# Altium schematic symbol library HW_ADHERENT_NFC_R1_L1.SchLib: 515 symbols (part 5 of 8)
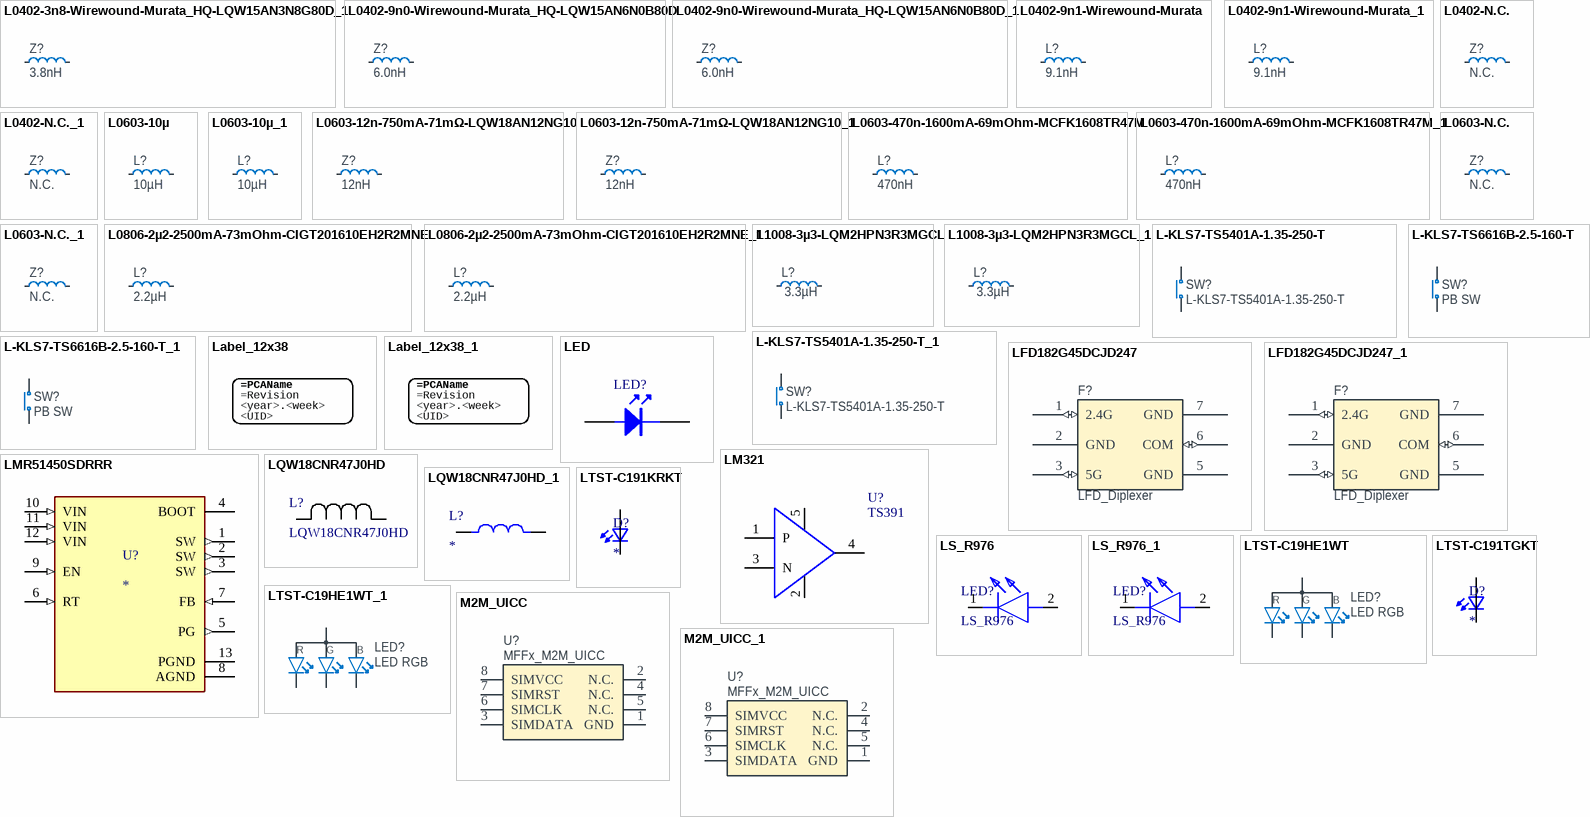
[diagram p19: symbols L0402-3n8-Wirewound-Murata_HQ-LQW15AN3N8G80D_1 to M2M_UICC_1]

## L0402-9n1-Wirewound-Murata
designator L?, comment 9.1nH
Inductor, 540mA, ±2%, 140mΩ, Q=25; Part Number: L0402-9n1-Wirewound-Murata; Manufacturer: Murata; Manufacturer Part Number: LQW15AN9N1G00; Part number IPS: 00000002497; Part number NEMS: 100300357; Note: -55°C ~ 125°C; Artikkelnr Noca: N.A.; Pad Count: 2; Component Status: Active; ComponentLink1URL: https://search.murata.co.jp/Ceramy/image/img/P02/JELF243A-0050.pdf; ComponentLink1Description: Datasheet; ComponentLink2URL: N.A.; ComponentLink2Description: Supplier link; HelpURL: https://psearch.en.murata.com/inductor/product/LQW15AN9N1G00%23.html; Footprint Doc: 0402; LatestRevisionDate: 2019-04-16; Published: 2019-04-16; Value: 9.1nH; Supplier 1: Digi-Key; Supplier Part Number 1: 490-6854-1-ND; Supplier 2: N.A.; Supplier Part Number 2: N.A.; PartId: 100300357; Component Class: Inductors; Author: rsk; Part number Norautron: N.A.
footprint INDC1005X04L_WW
pins: 1, 2

## L0402-9n1-Wirewound-Murata_1
designator L?, comment 9.1nH
Inductor, 540mA, ±2%, 140mΩ, Q=25; Part Number: L0402-9n1-Wirewound-Murata; Manufacturer: Murata; Manufacturer Part Number: LQW15AN9N1G00; Part number IPS: 00000002497; Part number NEMS: 100300357; Note: -55°C ~ 125°C; Artikkelnr Noca: N.A.; Pad Count: 2; Component Status: Active; ComponentLink1URL: https://search.murata.co.jp/Ceramy/image/img/P02/JELF243A-0050.pdf; ComponentLink1Description: Datasheet; ComponentLink2URL: N.A.; ComponentLink2Description: Supplier link; HelpURL: https://psearch.en.murata.com/inductor/product/LQW15AN9N1G00%23.html; Footprint Doc: 0402; LatestRevisionDate: 2019-04-16; Published: 2019-04-16; Value: 9.1nH; Supplier 1: Digi-Key; Supplier Part Number 1: 490-6854-1-ND; Supplier 2: N.A.; Supplier Part Number 2: N.A.; PartId: 100300357; Component Class: Inductors; Author: rsk; Part number Norautron: N.A.
footprint INDC1005X04L_WW
pins: 1, 2

## L0402-N.C.
designator Z?, comment N.C.
Not mounted; Part Number: L0402-N.C.; Manufacturer: N.A.; Part number NEMS: 100300037; Pad Count: 2; Assembly: Not mounted; Component Status: Active; Component Class: Inductors; Author: rsk; Manufacturer Part Number: N.A.; ComponentLink1URL: N.A.; ComponentLink1Description: Datasheet; ComponentLink2URL: N.A.; ComponentLink2Description: Supplier link; HelpURL: N.A.; Footprint Doc: 0402; LatestRevisionDate: 2016-11-24; Published: 2016-11-24; Value: N.C.; Note: N.A.; Supplier 1: N.A.; Supplier Part Number 1: N.A.; Supplier 2: N.A.; Supplier Part Number 2: N.A.; Artikkelnr Noca: N.A.; Part number IPS: N.A.; Part number Norautron: N.A.; PartId: 100300037
footprint INDC1005X04L_NC
footprint C1608X06L-C1005X04M (Chip Capacitor, 2-Leads, Body 1.6x0.8mm, IPC High Density)
pins: 1, 2

## L0402-N.C._1
designator Z?, comment N.C.
Not mounted; Part Number: L0402-N.C.; Manufacturer: N.A.; Part number NEMS: 100300037; Pad Count: 2; Assembly: Not mounted; Component Status: Active; Component Class: Inductors; Author: rsk; Manufacturer Part Number: N.A.; ComponentLink1URL: N.A.; ComponentLink1Description: Datasheet; ComponentLink2URL: N.A.; ComponentLink2Description: Supplier link; HelpURL: N.A.; Footprint Doc: 0402; LatestRevisionDate: 2016-11-24; Published: 2016-11-24; Value: N.C.; Note: N.A.; Supplier 1: N.A.; Supplier Part Number 1: N.A.; Supplier 2: N.A.; Supplier Part Number 2: N.A.; Artikkelnr Noca: N.A.; Part number IPS: N.A.; Part number Norautron: N.A.; PartId: 100300037
footprint INDC1005X04L_NC
footprint C1608X06L-C1005X04M (Chip Capacitor, 2-Leads, Body 1.6x0.8mm, IPC High Density)
pins: 1, 2

## L0603-10µ
designator L?, comment 10µH
Inductor, 80mA, ±10%; Part Number: L0603-10µ; Manufacturer: Taiyo Yuden; Manufacturer Part Number: LBMF1608T100K; Part number IPS: 00000007794; Part number Norautron: N.A.; Part number NEMS: 100300078; Pad Count: 2; Artikkelnr Noca: 33029314; Note: LBMF1608T100K 10µH 80mA 0603; Component Status: Active; Value: 10µH; Footprint Doc: 0603; Component Class: Inductors; Author: rsk; ComponentLink1Description: Datasheet; ComponentLink1URL: N.A.; ComponentLink2Description: Supplier link; ComponentLink2URL: N.A.; HelpURL: http://www.yuden.co.jp/ut/product/pdf/elb2_e.pdf; LatestRevisionDate: 2012-09-19; PartId: 100300078; Published: 2010-02-24; Supplier 1: Digi-Key; Supplier 2: Farnell; Supplier Part Number 1: 587-1714-1-ND; Supplier Part Number 2: 178-6105
footprint INDC1608X06L
pins: 1, 2

## L0603-10µ_1
designator L?, comment 10µH
Inductor, 80mA, ±10%; Part Number: L0603-10µ; Manufacturer: Taiyo Yuden; Manufacturer Part Number: LBMF1608T100K; Part number IPS: 00000007794; Part number Norautron: N.A.; Part number NEMS: 100300078; Pad Count: 2; Artikkelnr Noca: 33029314; Note: LBMF1608T100K 10µH 80mA 0603; Component Status: Active; Value: 10µH; Footprint Doc: 0603; Component Class: Inductors; Author: rsk; ComponentLink1Description: Datasheet; ComponentLink1URL: N.A.; ComponentLink2Description: Supplier link; ComponentLink2URL: N.A.; HelpURL: http://www.yuden.co.jp/ut/product/pdf/elb2_e.pdf; LatestRevisionDate: 2012-09-19; PartId: 100300078; Published: 2010-02-24; Supplier 1: Digi-Key; Supplier 2: Farnell; Supplier Part Number 1: 587-1714-1-ND; Supplier Part Number 2: 178-6105
footprint INDC1608X06L
pins: 1, 2

## L0603-12n-750mA-71mΩ-LQW18AN12NG10
designator Z?, comment 12nH
Inductor, 750mA, ±2%, 71mΩ, Q=38; Part Number: L0603-12n-750mA-71mΩ-LQW18AN12NG10; Manufacturer: Murata; Manufacturer Part Number: LQW18AN12NG10; Part number NEMS: 100300414; Pad Count: 2; Note: -55°C ~ 125°C; Artikkelnr Noca: N.A.; Component Status: Active; Component Class: Inductors; Author: rubr; ComponentLink1URL: https://search.murata.co.jp/Ceramy/image/img/P02/JELF243A-0026.pdf; ComponentLink1Description: Datasheet; ComponentLink2URL: N.A.; ComponentLink2Description: Supplier link; HelpURL: https://psearch.en.murata.com/inductor/product/LQW18AN12NG10%23.html; Footprint Doc: 0603; LatestRevisionDate: 2022-02-17; Published: 2022-02-17; Value: 12nH; Supplier 1: Digi-Key; Supplier Part Number 1: 490-6862-1-ND; Supplier 2: Mouser; Supplier Part Number 2: 81-LQW18AN12NG10D; Part number IPS: N.A.; Part number Norautron: N.A.; PartId: 100300414
footprint INDC1608X06L_WW
footprint C1608X06L-C1005X04M (Chip Capacitor, 2-Leads, Body 1.6x0.8mm, IPC High Density)
pins: 1, 2

## L0603-12n-750mA-71mΩ-LQW18AN12NG10_1
designator Z?, comment 12nH
Inductor, 750mA, ±2%, 71mΩ, Q=38; Part Number: L0603-12n-750mA-71mΩ-LQW18AN12NG10; Manufacturer: Murata; Manufacturer Part Number: LQW18AN12NG10; Part number NEMS: 100300414; Pad Count: 2; Note: -55°C ~ 125°C; Artikkelnr Noca: N.A.; Component Status: Active; Component Class: Inductors; Author: rubr; ComponentLink1URL: https://search.murata.co.jp/Ceramy/image/img/P02/JELF243A-0026.pdf; ComponentLink1Description: Datasheet; ComponentLink2URL: N.A.; ComponentLink2Description: Supplier link; HelpURL: https://psearch.en.murata.com/inductor/product/LQW18AN12NG10%23.html; Footprint Doc: 0603; LatestRevisionDate: 2022-02-17; Published: 2022-02-17; Value: 12nH; Supplier 1: Digi-Key; Supplier Part Number 1: 490-6862-1-ND; Supplier 2: Mouser; Supplier Part Number 2: 81-LQW18AN12NG10D; Part number IPS: N.A.; Part number Norautron: N.A.; PartId: 100300414
footprint INDC1608X06L_WW
footprint C1608X06L-C1005X04M (Chip Capacitor, 2-Leads, Body 1.6x0.8mm, IPC High Density)
pins: 1, 2

## L0603-470n-1600mA-69mOhm-MCFK1608TR47M
designator L?, comment 470nH
Inductor, Irms=1.6A, Isat=1.9A, ±20%, DCR=69mΩ; Part Number: L0603-470n-1600mA-69mOhm-MCFK1608TR47M; Manufacturer: Taiyo Yuden; Manufacturer Part Number: MCFK1608TR47M; Part number NEMS: 100300402; Pad Count: 2; Component Status: Active; Note: -40°C ~ 125°C; Artikkelnr Noca: N.A.; Component Class: Inductors; Author: getr; Footprint Doc: 0603; Value: 470nH; PartId: 100300402; ComponentLink1URL: https://ds.yuden.co.jp/TYCOMPAS/ut/detail?pn=MCFK1608TR47M%20&u=M; ComponentLink1Description: Datasheet; ComponentLink2URL: https://www.digikey.com/en/products/detail/taiyo-yuden/MCFK1608TR47M/7100391?s=N4IgTCBcDaILIGEBiBpAjANgAwA4AqASgCwDscIAugL5A; ComponentLink2Description: Supplier link; HelpURL: https://ds.yuden.co.jp/TYCOMPAS/ut/detail?pn=MCFK1608TR47M&u=M; LatestRevisionDate: 2022-09-07; Published: 2021-04-06; Supplier 1: Digi-Key; Supplier Part Number 1: 587-5625-1-ND; Supplier 2: N.A.; Supplier Part Number 2: N.A.; Part number IPS: N.A.; Part number Norautron: N.A.
footprint INDC1608X06L
pins: 1, 2

## L0603-470n-1600mA-69mOhm-MCFK1608TR47M_1
designator L?, comment 470nH
Inductor, Irms=1.6A, Isat=1.9A, ±20%, DCR=69mΩ; Part Number: L0603-470n-1600mA-69mOhm-MCFK1608TR47M; Manufacturer: Taiyo Yuden; Manufacturer Part Number: MCFK1608TR47M; Part number NEMS: 100300402; Pad Count: 2; Component Status: Active; Note: -40°C ~ 125°C; Artikkelnr Noca: N.A.; Component Class: Inductors; Author: getr; Footprint Doc: 0603; Value: 470nH; PartId: 100300402; ComponentLink1URL: https://ds.yuden.co.jp/TYCOMPAS/ut/detail?pn=MCFK1608TR47M%20&u=M; ComponentLink1Description: Datasheet; ComponentLink2URL: https://www.digikey.com/en/products/detail/taiyo-yuden/MCFK1608TR47M/7100391?s=N4IgTCBcDaILIGEBiBpAjANgAwA4AqASgCwDscIAugL5A; ComponentLink2Description: Supplier link; HelpURL: https://ds.yuden.co.jp/TYCOMPAS/ut/detail?pn=MCFK1608TR47M&u=M; LatestRevisionDate: 2022-09-07; Published: 2021-04-06; Supplier 1: Digi-Key; Supplier Part Number 1: 587-5625-1-ND; Supplier 2: N.A.; Supplier Part Number 2: N.A.; Part number IPS: N.A.; Part number Norautron: N.A.
footprint INDC1608X06L
pins: 1, 2

## L0603-N.C.
designator Z?, comment N.C.
Not mounted; Part Number: L0603-N.C.; Manufacturer: N.A.; Part number NEMS: 100300069; Pad Count: 2; Assembly: Not mounted; Component Status: Active; PartId: 100300069; Component Class: Inductors; Author: rsk; Manufacturer Part Number: N.A.; ComponentLink1URL: N.A.; ComponentLink1Description: Datasheet; ComponentLink2URL: N.A.; ComponentLink2Description: Supplier link; HelpURL: N.A.; Footprint Doc: 0603; LatestRevisionDate: 2016-11-24; Published: 2016-11-24; Value: N.C.; Note: N.A.; Supplier 1: N.A.; Supplier Part Number 1: N.A.; Supplier 2: N.A.; Supplier Part Number 2: N.A.; Artikkelnr Noca: N.A.; Part number IPS: N.A.; Part number Norautron: N.A.
footprint INDC1608X06L_NC
footprint C1608X06L-C1005X04M (Chip Capacitor, 2-Leads, Body 1.6x0.8mm, IPC High Density)
pins: 1, 2

## L0603-N.C._1
designator Z?, comment N.C.
Not mounted; Part Number: L0603-N.C.; Manufacturer: N.A.; Part number NEMS: 100300069; Pad Count: 2; Assembly: Not mounted; Component Status: Active; PartId: 100300069; Component Class: Inductors; Author: rsk; Manufacturer Part Number: N.A.; ComponentLink1URL: N.A.; ComponentLink1Description: Datasheet; ComponentLink2URL: N.A.; ComponentLink2Description: Supplier link; HelpURL: N.A.; Footprint Doc: 0603; LatestRevisionDate: 2016-11-24; Published: 2016-11-24; Value: N.C.; Note: N.A.; Supplier 1: N.A.; Supplier Part Number 1: N.A.; Supplier 2: N.A.; Supplier Part Number 2: N.A.; Artikkelnr Noca: N.A.; Part number IPS: N.A.; Part number Norautron: N.A.
footprint INDC1608X06L_NC
footprint C1608X06L-C1005X04M (Chip Capacitor, 2-Leads, Body 1.6x0.8mm, IPC High Density)
pins: 1, 2

## L0806-2µ2-2500mA-73mOhm-CIGT201610EH2R2MNE
designator L?, comment 2.2µH
Inductor, Irms=2.5A, Isat=2.9A, ±20%, DCR=73mΩ; Part Number: L0806-2µ2-2500mA-73mOhm-CIGT201610EH2R2MNE; Manufacturer: Samsung Electro-Mechanics America; Manufacturer Part Number: CIGT201610EH2R2MNE; Part number Norautron: 26521789; Part number NEMS: 100300400; Pad Count: 2; Component Status: Active; Note: Unshielded Thin Film Inductor; Artikkelnr Noca: N.A.; Component Class: Inductors; Author: rsk; Footprint Doc: 0806; Value: 2.2µH; PartId: 100300400; ComponentLink1URL: https://media.digikey.com/pdf/Data%20Sheets/Samsung%20PDFs/CIGT201610EH2R2MNE_Spec.pdf; ComponentLink1Description: Datasheet; ComponentLink2URL: https://www.digikey.com/en/products/detail/samsung-electro-mechanics/CIGT201610EH2R2MNE/7041223?s=N4IgTCBcDaIMIEkDiAVMAGAjANk%2BgogBJgBKYAsgHL4gC6AvkA; ComponentLink2Description: Supplier link; HelpURL: http://product.samsungsem.com/pi/CIGT201610EH2R2MN.do; LatestRevisionDate: 2022-09-07; Published: 2021-02-03; Supplier 1: Digi-Key; Supplier Part Number 1: 1276-6901-1-ND; Supplier 2: Mouser; Supplier Part Number 2: 187-CIGT201610EH2R2M; Part number IPS: N.A.
footprint INDC2016X10N
pins: 1, 2

## L0806-2µ2-2500mA-73mOhm-CIGT201610EH2R2MNE_1
designator L?, comment 2.2µH
Inductor, Irms=2.5A, Isat=2.9A, ±20%, DCR=73mΩ; Part Number: L0806-2µ2-2500mA-73mOhm-CIGT201610EH2R2MNE; Manufacturer: Samsung Electro-Mechanics America; Manufacturer Part Number: CIGT201610EH2R2MNE; Part number Norautron: 26521789; Part number NEMS: 100300400; Pad Count: 2; Component Status: Active; Note: Unshielded Thin Film Inductor; Artikkelnr Noca: N.A.; Component Class: Inductors; Author: rsk; Footprint Doc: 0806; Value: 2.2µH; PartId: 100300400; ComponentLink1URL: https://media.digikey.com/pdf/Data%20Sheets/Samsung%20PDFs/CIGT201610EH2R2MNE_Spec.pdf; ComponentLink1Description: Datasheet; ComponentLink2URL: https://www.digikey.com/en/products/detail/samsung-electro-mechanics/CIGT201610EH2R2MNE/7041223?s=N4IgTCBcDaIMIEkDiAVMAGAjANk%2BgogBJgBKYAsgHL4gC6AvkA; ComponentLink2Description: Supplier link; HelpURL: http://product.samsungsem.com/pi/CIGT201610EH2R2MN.do; LatestRevisionDate: 2022-09-07; Published: 2021-02-03; Supplier 1: Digi-Key; Supplier Part Number 1: 1276-6901-1-ND; Supplier 2: Mouser; Supplier Part Number 2: 187-CIGT201610EH2R2M; Part number IPS: N.A.
footprint INDC2016X10N
pins: 1, 2

## L1008-3µ3-LQM2HPN3R3MGCL
designator L?, comment 3.3µH
Inductor, 1A, ±20%, 200mOhm; Part Number: L1008-3µ3-LQM2HPN3R3MGCL; Manufacturer: Murata; Manufacturer Part Number: LQM2HPN3R3MGCL; Part number NEMS: 100300406; Pad Count: 2; Note: -55°C ~ 125°C; Artikkelnr Noca: N.A.; Component Status: Active; Component Class: Inductors; Author: prbu; ComponentLink1URL: https://www.murata.com/en-sg/products/productdetail?partno=LQM2HPN3R3MGC%23; ComponentLink1Description: Datasheet; ComponentLink2URL: https://www.digikey.com/en/products/detail/murata-electronics/LQM2HPN3R3MGCL/4359129?s=N4IgTCBcDaIDIEUCyYASAFAcgZgEraQHEBhOEAXQF8g; ComponentLink2Description: Supplier link; HelpURL: https://www.murata.com/en-sg/products/productdetail?partno=LQM2HPN3R3MGC%23; Footprint Doc: 1008; LatestRevisionDate: 2022-01-20; Published: 2022-01-20; Value: 3.3µH; Supplier 1: Digi-Key; Supplier Part Number 1: 490-12070-1-ND; Supplier 2: N.A.; Supplier Part Number 2: N.A.; Part number IPS: N.A.; Part number Norautron: N.A.; PartId: 100300406
footprint INDC2520X10N
pins: 1, 2

## L1008-3µ3-LQM2HPN3R3MGCL_1
designator L?, comment 3.3µH
Inductor, 1A, ±20%, 200mOhm; Part Number: L1008-3µ3-LQM2HPN3R3MGCL; Manufacturer: Murata; Manufacturer Part Number: LQM2HPN3R3MGCL; Part number NEMS: 100300406; Pad Count: 2; Note: -55°C ~ 125°C; Artikkelnr Noca: N.A.; Component Status: Active; Component Class: Inductors; Author: prbu; ComponentLink1URL: https://www.murata.com/en-sg/products/productdetail?partno=LQM2HPN3R3MGC%23; ComponentLink1Description: Datasheet; ComponentLink2URL: https://www.digikey.com/en/products/detail/murata-electronics/LQM2HPN3R3MGCL/4359129?s=N4IgTCBcDaIDIEUCyYASAFAcgZgEraQHEBhOEAXQF8g; ComponentLink2Description: Supplier link; HelpURL: https://www.murata.com/en-sg/products/productdetail?partno=LQM2HPN3R3MGC%23; Footprint Doc: 1008; LatestRevisionDate: 2022-01-20; Published: 2022-01-20; Value: 3.3µH; Supplier 1: Digi-Key; Supplier Part Number 1: 490-12070-1-ND; Supplier 2: N.A.; Supplier Part Number 2: N.A.; Part number IPS: N.A.; Part number Norautron: N.A.; PartId: 100300406
footprint INDC2520X10N
pins: 1, 2

## L-KLS7-TS5401A-1.35-250-T
designator SW?
Microminiature SMT Switch, Side Actuated; Manufacturer: Cabcon; Part number NEMS: 101500149; Pad Count: 4; Note: Tactile Switch, SPST, SMD, 220gf; Artikkelnr Noca: N.A.; Component Status: Active; Part Number: L-KLS7-TS5401A-1.35-250-T; Component Class: Switches; Author: getr; Manufacturer Part Number: L-KLS7-TS5401A-1.35-250-T; ComponentLink1URL: N.A.; ComponentLink1Description: Datasheet; ComponentLink2URL: N.A.; ComponentLink2Description: Supplier link; HelpURL: N.A.; Footprint Doc: L-KLS7-TS5401A-1.35-250-T; LatestRevisionDate: 2024-08-08; Published: 2024-08-08; Value: L-KLS7-TS5401A-1.35-250-T; Supplier 1: Cabcon; Supplier Part Number 1: L-KLS7-TS5401A-1.35-250-T; Supplier 2: N.A.; Supplier Part Number 2: N.A.; Part number IPS: N.A.; Part number Norautron: N.A.; PartId: 101500149
footprint L-KLS7-TS5401A-1.35-250-T
pins: 1 N.O, 2 COM

## L-KLS7-TS5401A-1.35-250-T_1
designator SW?, comment L-KLS7-TS5401A-1.35-250-T
Microminiature SMT Switch, Side Actuated; Manufacturer: Cabcon; Part number NEMS: 101500149; Pad Count: 4; Note: Tactile Switch, SPST, SMD, 220gf; Artikkelnr Noca: N.A.; Component Status: Active; Part Number: L-KLS7-TS5401A-1.35-250-T; Component Class: Switches; Author: getr; Manufacturer Part Number: L-KLS7-TS5401A-1.35-250-T; ComponentLink1URL: N.A.; ComponentLink1Description: Datasheet; ComponentLink2URL: N.A.; ComponentLink2Description: Supplier link; HelpURL: N.A.; Footprint Doc: L-KLS7-TS5401A-1.35-250-T; LatestRevisionDate: 2024-08-08; Published: 2024-08-08; Value: L-KLS7-TS5401A-1.35-250-T; Supplier 1: Cabcon; Supplier Part Number 1: L-KLS7-TS5401A-1.35-250-T; Supplier 2: N.A.; Supplier Part Number 2: N.A.; Part number IPS: N.A.; Part number Norautron: N.A.; PartId: 101500149
footprint L-KLS7-TS5401A-1.35-250-T
pins: 1 N.O, 2 COM

## L-KLS7-TS6616B-2.5-160-T
designator SW?, comment PB SW
Tactile Switch, SPNO, SMD, 160gf, 6.2x6.4x2.5mm; Part Number: L-KLS7-TS6616B-2.5-160-T; Manufacturer: KLS; Part number NEMS: 101500133, 101500001; Note: N.A.; Pad Count: 4; Component Status: Active; Manufacturer Part Number: L-KLS7-TS6616B-2.5-160-T; Footprint Doc: L-KLS7-TS6616B-2.5-160-T; LatestRevisionDate: 2021-07-02; Published: 2021-07-02; Value: PB SW; Artikkelnr Noca: N.A.; Part number IPS: N.A.; ComponentLink1URL: N.A.; ComponentLink1Description: Datasheet; ComponentLink2URL: N.A.; ComponentLink2Description: Supplier link; HelpURL: \\hizz\pro\app9717\Datasheet\switches\KLS\L-KLS7-TS6616B-2.5-160-T.pdf; Supplier 1: Cabcon; Supplier Part Number 1: L-KLS7-TS6616B-2.5-160-T; Supplier 2: N.A.; Supplier Part Number 2: N.A.; Author: masi; Component Class: Switches; PartId: 101500133; Part number Norautron: N.A.
footprint L-KLS7-TS6616B-2.5-160-T
pins: 1 N.O, 2 COM

## L-KLS7-TS6616B-2.5-160-T_1
designator SW?, comment PB SW
Tactile Switch, SPNO, SMD, 160gf, 6.2x6.4x2.5mm; Part Number: L-KLS7-TS6616B-2.5-160-T; Manufacturer: KLS; Part number NEMS: 101500133, 101500001; Note: N.A.; Pad Count: 4; Component Status: Active; Manufacturer Part Number: L-KLS7-TS6616B-2.5-160-T; Footprint Doc: L-KLS7-TS6616B-2.5-160-T; LatestRevisionDate: 2021-07-02; Published: 2021-07-02; Value: PB SW; Artikkelnr Noca: N.A.; Part number IPS: N.A.; ComponentLink1URL: N.A.; ComponentLink1Description: Datasheet; ComponentLink2URL: N.A.; ComponentLink2Description: Supplier link; HelpURL: \\hizz\pro\app9717\Datasheet\switches\KLS\L-KLS7-TS6616B-2.5-160-T.pdf; Supplier 1: Cabcon; Supplier Part Number 1: L-KLS7-TS6616B-2.5-160-T; Supplier 2: N.A.; Supplier Part Number 2: N.A.; Author: masi; Component Class: Switches; PartId: 101500133; Part number Norautron: N.A.
footprint L-KLS7-TS6616B-2.5-160-T
pins: 1 N.O, 2 COM

## Label_12x38
designator LABEL?, comment 12x38mm  (value not drawn)
PCA version label, stick-on, 12x38mm; Part Number: Label_12x38; Manufacturer: Ellco Etikett; Manufacturer Part Number: 83019; Part number NEMS: 101200031; Component Status: Active; Pad Count: 0; Note: N.A.; Component Class: Mechanicals; Author: getr; ComponentLink1URL: N.A.; ComponentLink1Description: Datasheet; ComponentLink2URL: N.A.; ComponentLink2Description: Supplier link; HelpURL: N.A.; LatestRevisionDate: 2023-08-02; Published: 2023-08-02; Footprint Doc: Label; Value: 12x38mm; Supplier 1: N.A.; Supplier Part Number 1: N.A.; Supplier 2: N.A.; Supplier Part Number 2: N.A.; Artikkelnr Noca: N.A.; Part number IPS: N.A.; Part number Norautron: N.A.; PartId: 101200031
footprint LabelSilk_12x38
text: <year>.<week>; <UID>

## Label_12x38_1
designator LABEL?, comment 12x38mm  (value not drawn)
PCA version label, stick-on, 12x38mm; Part Number: Label_12x38; Manufacturer: Ellco Etikett; Manufacturer Part Number: 83019; Part number NEMS: 101200031; Component Status: Active; Pad Count: 0; Note: N.A.; Component Class: Mechanicals; Author: getr; ComponentLink1URL: N.A.; ComponentLink1Description: Datasheet; ComponentLink2URL: N.A.; ComponentLink2Description: Supplier link; HelpURL: N.A.; LatestRevisionDate: 2023-08-02; Published: 2023-08-02; Footprint Doc: Label; Value: 12x38mm; Supplier 1: N.A.; Supplier Part Number 1: N.A.; Supplier 2: N.A.; Supplier Part Number 2: N.A.; Artikkelnr Noca: N.A.; Part number IPS: N.A.; Part number Norautron: N.A.; PartId: 101200031
footprint LabelSilk_12x38
text: <year>.<week>; <UID>

## LED
designator LED?
footprint LUMEXLED
pins: A 1, K 2

## LFD182G45DCJD247
designator F?, comment LFD_Diplexer
Signal Conditioning 2.4GHz and 5GHz Diplexer; Part Number: LFD182G45DCJD247; Manufacturer: Murata; Part number NEMS: 100800026; Pad Count: 6; Value: LFD182G45DCJD247; Note: N.A.; Component Status: Active; Component Class: Filters; Author: hany; Manufacturer Part Number: LFD182G45DCJD247; ComponentLink1URL: https://no.mouser.com/datasheet/2/281/1/LFD182G45DCJD247-2399435.pdf; ComponentLink1Description: Datasheet; ComponentLink2URL: N.A.; ComponentLink2Description: Supplier link; HelpURL: N.A.; Footprint Doc: CAF; LatestRevisionDate: 2021-10-06; Published: 2021-10-06; Supplier 1: Mouser; Supplier Part Number 1: 81-LFD182G45DCJD247; Supplier 2: N.A.; Supplier Part Number 2: N.A.; Artikkelnr Noca: N.A.; Part number IPS: N.A.; Part number Norautron: N.A.; PartId: 100800026
footprint CAF-50P160X80-6N
pins: 1 2.4G (io), 2 GND (power), 3 5G (io), 5 GND (power), 6 COM (io), 7 GND (power)

## LFD182G45DCJD247_1
designator F?, comment LFD_Diplexer
Signal Conditioning 2.4GHz and 5GHz Diplexer; Part Number: LFD182G45DCJD247; Manufacturer: Murata; Part number NEMS: 100800026; Pad Count: 6; Value: LFD182G45DCJD247; Note: N.A.; Component Status: Active; Component Class: Filters; Author: hany; Manufacturer Part Number: LFD182G45DCJD247; ComponentLink1URL: https://no.mouser.com/datasheet/2/281/1/LFD182G45DCJD247-2399435.pdf; ComponentLink1Description: Datasheet; ComponentLink2URL: N.A.; ComponentLink2Description: Supplier link; HelpURL: N.A.; Footprint Doc: CAF; LatestRevisionDate: 2021-10-06; Published: 2021-10-06; Supplier 1: Mouser; Supplier Part Number 1: 81-LFD182G45DCJD247; Supplier 2: N.A.; Supplier Part Number 2: N.A.; Artikkelnr Noca: N.A.; Part number IPS: N.A.; Part number Norautron: N.A.; PartId: 100800026
footprint CAF-50P160X80-6N
pins: 1 2.4G (io), 2 GND (power), 3 5G (io), 5 GND (power), 6 COM (io), 7 GND (power)

## LM321
designator U?, comment TS391
footprint SOT-25
pins: 1 P, 2 GND, 3 N, 4 OUT, 5 VDD

## LMR51450SDRRR
designator U?
36-V,Â 5-A synchronous buck converter; MF: Texas Instruments; MP: LMR51450SDRRR; SnapEDA_Link: https://www.snapeda.com/parts/LMR51450SDRRR/Texas+Instruments/view-part/?ref=snap; Package: WSON-12 Texas Instruments; Value: *; Check_prices: https://www.snapeda.com/parts/LMR51450SDRRR/Texas+Instruments/view-part/?ref=eda
footprint CONV_LMR51450SDRRR
pins: 1 SW (out), 2 SW (out), 3 SW (out), 4 BOOT, 5 PG (out), 6 RT (in), 7 FB (in), 8 AGND (power), 9 EN (in), 10 VIN (in), 11 VIN (in), 12 VIN (in), 13 PGND (power)

## LQW18CNR47J0HD
designator L?
Description; Manufacturer_Name: Murata; Copyright: Copyright (C) 2025 Ultra Librarian. All rights reserved.; Manufacturer_Part_Number: LQW18CNR47J0HD
footprint IND_LQW18CN_0H_MUR
pins: 1, 2

## LQW18CNR47J0HD_1
designator L?
470 nH Unshielded Wirewound Inductor 500 mA 450mOhm Max 0603 (1608 Metric); Manufacturer: Murata Electronics; Supplier: Digi; 490-LQW18CNR47J0HDDKR-ND
footprint IND_LQW18CNR47J0HD
pins: 1, 2

## LS_R976
designator LED?
Red 633nm LED Indication - Discrete 2V 0805 (2012 Metric); Manufacturer_Name: ams OSRAM; Manufacturer_Part_Number: LS R976; Datasheet Link: http://uk.rs-online.com/web/p/products/4974804; Height: 0.4mm; Mouser Part Number: 720-LSR976D5178; Mouser Price/Stock: https://www.mouser.co.uk/ProductDetail/OSRAM-Opto-Semiconductors/LS-R976?qs=OIr7YF%252B2cWVTfzKl425Fkw%3D%3D; Arrow Part Number: LS R976; Arrow Price/Stock: https://www.arrow.com/en/products/lsr976/osram-opto-semiconductors?region=europe
footprint LEDC2012X40N
pins: 1 K, 2 A

## LS_R976_1
designator LED?, comment LS_R976
Red 633nm LED Indication - Discrete 2V 0805 (2012 Metric); Manufacturer_Name: ams OSRAM; Manufacturer_Part_Number: LS R976; Datasheet Link: http://uk.rs-online.com/web/p/products/4974804; Height: 0.4mm; Mouser Part Number: 720-LSR976D5178; Mouser Price/Stock: https://www.mouser.co.uk/ProductDetail/OSRAM-Opto-Semiconductors/LS-R976?qs=OIr7YF%252B2cWVTfzKl425Fkw%3D%3D; Arrow Part Number: LS R976; Arrow Price/Stock: https://www.arrow.com/en/products/lsr976/osram-opto-semiconductors?region=europe
footprint LEDC2012X40N
pins: 1 K, 2 A

## LTST-C19HE1WT
designator LED?, comment LED RGB
RGB LED 1.60 mm x 1.60 mm SMD; Part Number: LTST-C19HE1WT; Manufacturer: LITEON; Part number IPS: 00000007798; Part number NEMS: 101400093; Note: N.A.; Pad Count: 4; Component Status: Active; Manufacturer Part Number: LTST-C19HE1WT; LatestRevisionDate: 2016-09-23; Published: 2016-09-23; Value: LED RGB; Artikkelnr Noca: N.A.; Footprint Doc: LED_RGB_0606; ComponentLink1URL: N.A.; ComponentLink1Description: Datasheet; ComponentLink2URL: N.A.; ComponentLink2Description: Supplier link; HelpURL: http://optoelectronics.liteon.com/upload/download/DS22-2008-0044/S_110_LTST-C19HE1WT.pdf; Supplier 1: Digi-Key; Supplier Part Number 1: 160-2162-1-ND; Supplier 2: Mouser; Supplier Part Number 2: 859-LTST-C19HE1WT; Author: rsk; Component Class: Optoelectronics; PartId: 101400093; Part number Norautron: N.A.
footprint LED_RGB_0606
pins: 1 C_RED, 2 C_GREEN, 3 C_BLUE, 4 A
text: R; G; B

## LTST-C19HE1WT_1
designator LED?, comment LED RGB
RGB LED 1.60 mm x 1.60 mm SMD; Part Number: LTST-C19HE1WT; Manufacturer: LITEON; Part number IPS: 00000007798; Part number NEMS: 101400093; Note: N.A.; Pad Count: 4; Component Status: Active; Manufacturer Part Number: LTST-C19HE1WT; LatestRevisionDate: 2016-09-23; Published: 2016-09-23; Value: LED RGB; Artikkelnr Noca: N.A.; Footprint Doc: LED_RGB_0606; ComponentLink1URL: N.A.; ComponentLink1Description: Datasheet; ComponentLink2URL: N.A.; ComponentLink2Description: Supplier link; HelpURL: http://optoelectronics.liteon.com/upload/download/DS22-2008-0044/S_110_LTST-C19HE1WT.pdf; Supplier 1: Digi-Key; Supplier Part Number 1: 160-2162-1-ND; Supplier 2: Mouser; Supplier Part Number 2: 859-LTST-C19HE1WT; Author: rsk; Component Class: Optoelectronics; PartId: 101400093; Part number Norautron: N.A.
footprint LED_RGB_0606
pins: 1 C_RED, 2 C_GREEN, 3 C_BLUE, 4 A
text: R; G; B

## LTST-C191KRKT
designator D?
http://octopart.com/ltst-c190krkt-lite-on-549893; MP: LTST-C191KRKT; Package: None; Value: *; Availability: Unavailable; Price: None
footprint 0603
pins: 1 K2, 2 A2

## LTST-C191TGKT
designator D?
Green 525nm LED Indication - Discrete 3.2V 0603 (1608 Metric); MP: LTST-C191TGKT; MF: Lite-On Inc.; SnapEDA_Link: https://www.snapeda.com/parts/LTST-C191TGKT/Lite-On%20Inc./view-part/696744/?ref=snap; Purchase-URL: https://pricing.snapeda.com/search/part/LTST-C191TGKT/?ref=eda; Value: *; Digi-Key_Part_Number: 160-1888-1-ND; Check_prices: https://www.snapeda.com/parts/LTST-C191TGKT/Lite-On%20Inc./view-part/696744/?ref=eda; Package: 0603 Lite-On
footprint 0603
pins: 1 K2, 2 A2

## M2M_UICC
designator U?, comment MFFx_M2M_UICC
M2M UICC SIM Card; Manufacturer: N.A.; Part number NEMS: 101900595; Pad Count: 8; Component Status: Active; Part Number: M2M_UICC; Manufacturer Part Number: N.A.; ComponentLink1URL: N.A.; ComponentLink1Description: Datasheet; ComponentLink2URL: N.A.; ComponentLink2Description: Supplier link; HelpURL: N.A.; Footprint Doc: SON-8; LatestRevisionDate: 2019-10-22; Published: 2019-10-22; Value: M2M UICC; Note: N.A.; Supplier 1: N.A.; Supplier Part Number 1: N.A.; Supplier 2: N.A.; Supplier Part Number 2: N.A.; Artikkelnr Noca: N.A.; Part number IPS: N.A.; Author: rsk; Component Class: Misc_ICs; PartId: 101900595; Part number Norautron: N.A.
footprint SON127P600X90_HS-8N
pins: 1 GND, 2 N.C., 3 SIMDATA, 4 N.C., 5 N.C., 6 SIMCLK, 7 SIMRST, 8 SIMVCC

## M2M_UICC_1
designator U?, comment MFFx_M2M_UICC
M2M UICC SIM Card; Manufacturer: N.A.; Part number NEMS: 101900595; Pad Count: 8; Component Status: Active; Part Number: M2M_UICC; Manufacturer Part Number: N.A.; ComponentLink1URL: N.A.; ComponentLink1Description: Datasheet; ComponentLink2URL: N.A.; ComponentLink2Description: Supplier link; HelpURL: N.A.; Footprint Doc: SON-8; LatestRevisionDate: 2019-10-22; Published: 2019-10-22; Value: M2M UICC; Note: N.A.; Supplier 1: N.A.; Supplier Part Number 1: N.A.; Supplier 2: N.A.; Supplier Part Number 2: N.A.; Artikkelnr Noca: N.A.; Part number IPS: N.A.; Author: rsk; Component Class: Misc_ICs; PartId: 101900595; Part number Norautron: N.A.
footprint SON127P600X90_HS-8N
pins: 1 GND, 2 N.C., 3 SIMDATA, 4 N.C., 5 N.C., 6 SIMCLK, 7 SIMRST, 8 SIMVCC

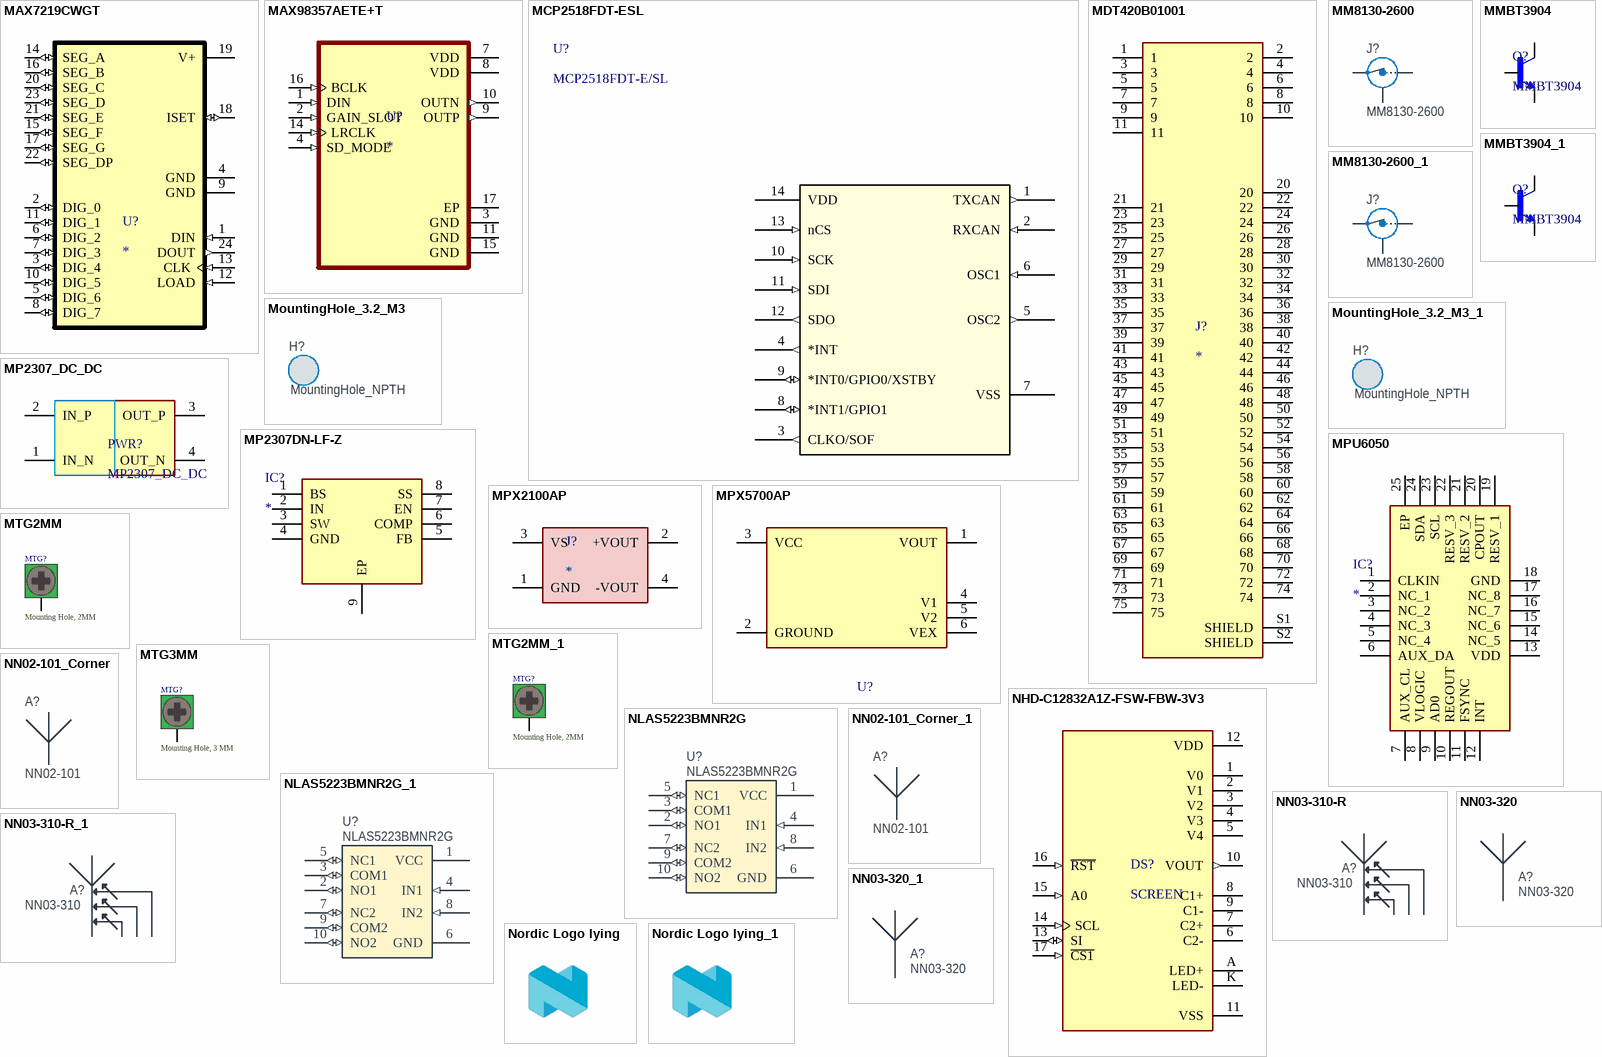
[diagram p8: symbols MAX7219CWGT to Nordic Logo lying_1]

## MAX7219CWGT
designator U?
IC DRVR 7 SEGMNT 8 DIGIT 24SOIC; MF: Maxim Integrated; MP: MAX7219CWG-T; Package: SOIC-24 Maxim Integrated; Value: *; Price: None; Availability: Unavailable; SnapEDA_Link: https://www.snapeda.com/parts/MAX7219CWG-T/Maxim%20Integrated/view-part/1041821/?ref=snap
footprint SOIC127P1032X265-24N
pins: 1 DIN (in), 2 DIG_0 (io), 3 DIG_4 (io), 4 GND (power), 5 DIG_6 (io), 6 DIG_2 (io), 7 DIG_3 (io), 8 DIG_7 (io), 9 GND (power), 10 DIG_5 (io), 11 DIG_1 (io), 12 LOAD (in), 13 CLK (in), 14 SEG_A (io), 15 SEG_F (io), 16 SEG_B (io), 17 SEG_G (io), 18 ISET (io), 19 V+ (power), 20 SEG_C (io), 21 SEG_E (io), 22 SEG_DP (io), 23 SEG_D (io), 24 DOUT (out)

## MAX98357AETE+T
designator U?
Tiny, Low-Cost, PCM Class D Amplifier with Class AB Performance; MF: Analog Devices; MP: MAX98357AETE+T; SnapEDA_Link: https://www.snapeda.com/parts/MAX98357AETE+T/Analog+Devices/view-part/?ref=snap; Package: TQFN-16 Maxim; Value: *; Check_prices: https://www.snapeda.com/parts/MAX98357AETE+T/Analog+Devices/view-part/?ref=eda
footprint QFN50P300X300X80-17N
pins: 1 DIN (in), 2 GAIN_SLOT (in), 3 GND (power), 4 SD_MODE (in), 7 VDD (power), 8 VDD (power), 9 OUTP (out), 10 OUTN (out), 11 GND (power), 14 LRCLK (in), 15 GND (power), 16 BCLK (in), 17 EP (power)

## MCP2518FDT-ESL
designator U?, comment MCP2518FDT-E/SL
Description; Manufacturer_Name: Microchip; Copyright: Copyright (C) 2025 Ultra Librarian. All rights reserved.; Manufacturer_Part_Number: MCP2518FDT-E/SL; RefDes: RefDes; Type: Type
footprint SOIC14_SL_MCH
pins: 1 TXCAN (out), 2 RXCAN (in), 3 CLKO/SOF (out), 4 *INT (out), 5 OSC2 (out), 6 OSC1 (in), 7 VSS (power), 8 *INT1/GPIO1 (io), 9 *INT0/GPIO0/XSTBY (io), 10 SCK (in), 11 SDI (in), 12 SDO (out), 13 nCS (in), 14 VDD (power)

## MDT420B01001
designator J?
MF: Amphenol Commercial; MP: MDT420B01001; Package: None; Price: None; Value: *; Availability: Unavailable
footprint AMPHENOL_MDT420B01001
pins: 1, 2, 3, 4, 5, 6, 7, 8, 9, 10, 11, 20, 21, 22, 23, 24, 25, 26, 27, 28, 29, 30, 31, 32, 33, 34, 35, 36, 37, 38, 39, 40, 41, 42, 43, 44, 45, 46, 47, 48, 49, 50, 51, 52, 53, 54, 55, 56, 57, 58, 59, 60, 61, 62, 63, 64, 65, 66, 67, 68, 69, 70, 71, 72, 73, 74, 75, S1 SHIELD, S2 SHIELD

## MM8130-2600
designator J?
Coaxial Connector with Switch; Manufacturer: Murata; Part number IPS: 00000009955; Part number Norautron: 26030338; Part number NEMS: 100500400; Note: N.A.; Artikkelnr Noca: 55029011; Pad Count: 3; Component Status: Active; Part Number: MM8130-2600; Manufacturer Part Number: MM8130-2600; LatestRevisionDate: 2014-04-24; Published: 2014-04-24; Value: MM8130-2600; Footprint Doc: COAXIAL-SWF; ComponentLink1URL: N.A.; ComponentLink1Description: Datasheet; ComponentLink2URL: N.A.; ComponentLink2Description: Supplier link; HelpURL: http://www.murata.com/products/catalog/pdf/o33e.pdf; Supplier 1: Digi-Key; Supplier Part Number 1: 490-4981-1-ND; Supplier 2: Mouser; Supplier Part Number 2: 81-MM8130-2600RA2; Component Class: Connectors; PartId: 100500400; Author: rsk; System: Connector
footprint COAXIAL-SWF
pins: 1 IN, 2 Shield, 3 OUT

## MM8130-2600_1
designator J?, comment MM8130-2600
Coaxial Connector with Switch; Manufacturer: Murata; Part number IPS: 00000009955; Part number Norautron: 26030338; Part number NEMS: 100500400; Note: N.A.; Artikkelnr Noca: 55029011; Pad Count: 3; Component Status: Active; Part Number: MM8130-2600; Manufacturer Part Number: MM8130-2600; LatestRevisionDate: 2014-04-24; Published: 2014-04-24; Value: MM8130-2600; Footprint Doc: COAXIAL-SWF; ComponentLink1URL: N.A.; ComponentLink1Description: Datasheet; ComponentLink2URL: N.A.; ComponentLink2Description: Supplier link; HelpURL: http://www.murata.com/products/catalog/pdf/o33e.pdf; Supplier 1: Digi-Key; Supplier Part Number 1: 490-4981-1-ND; Supplier 2: Mouser; Supplier Part Number 2: 81-MM8130-2600RA2; Component Class: Connectors; PartId: 100500400; Author: rsk; System: Connector
footprint COAXIAL-SWF
pins: 1 IN, 2 Shield, 3 OUT

## MMBT3904
designator Q?
BJT, SOT-23, 40V, 200mA, NPN, 0.35W, 150Â°C; MF: Diotec Semiconductor; SnapEDA_Link: https://www.snapeda.com/parts/MMBT3904/Diotec/view-part/?ref=snap; Package: SOT-23 Diotec; Value: *; MP: MMBT3904; Check_prices: https://www.snapeda.com/parts/MMBT3904/Diotec/view-part/?ref=eda
footprint TRANS_MMBT3904
pins: 1 B, 2 E, 3 C

## MMBT3904_1
designator Q?, comment MMBT3904
BJT, SOT-23, 40V, 200mA, NPN, 0.35W, 150Â°C; MF: Diotec Semiconductor; SnapEDA_Link: https://www.snapeda.com/parts/MMBT3904/Diotec/view-part/?ref=snap; Package: SOT-23 Diotec; Value: *; MP: MMBT3904; Check_prices: https://www.snapeda.com/parts/MMBT3904/Diotec/view-part/?ref=eda
footprint TRANS_MMBT3904
pins: 1 B, 2 E, 3 C

## MountingHole_3.2_M3
designator H?, comment MountingHole_NPTH  (no BOM)
Mounting hole, 3.2mm, M3, no annular; Part Number: MountingHole_3.2_M3; Manufacturer: N.A.; Part number NEMS: 101200008; Value: MountingHole_3.2_M3; Pad Count: 0; Component Status: Active; Rule: UNIONINDEX=0|RULEKIND=Clearance|NETSCOPE=DifferentNets|LAYERKIND=SameLayer|NAME=Schematic Clearance Constraint|GAP=10mil|GENERICCLEARANCE=10mil|IGNOREPADTOPADCLEARANCEINFOOTPRINT=TRUE|OBJECTCLEARANCES=ClearanceObj_Arc-ClearanceObj_Hole:0;ClearanceObj_Track-ClearanceObj_Hole:0;ClearanceObj_SMDPad-ClearanceObj_Hole:0;ClearanceObj_THPad-ClearanceObj_Hole:0;ClearanceObj_Via-ClearanceObj_Hole:0;ClearanceObj_Fill-ClearanceObj_Hole:0;ClearanceObj_Poly-ClearanceObj_Hole:0;ClearanceObj_Region-ClearanceObj_Hole:0;ClearanceObj_Text-ClearanceObj_Hole:0|UNIT=Metric; Rule: UNIONINDEX=0|RULEKIND=RoutingVias|NETSCOPE=AnyNet|LAYERKIND=SameLayer|NAME=Schematic Routing Via Style|HOLEWIDTH=0mil|WIDTH=0mil|VIASTYLE=Through Hole|MINHOLEWIDTH=0mil|MINWIDTH=0mil|MAXHOLEWIDTH=78.7402mil|MAXWIDTH=78.7402mil|UNIT=Metric; Manufacturer Part Number: N.A.; Footprint Doc: MountingHole_3.2_M3; LatestRevisionDate: 2022-12-16; Published: 2022-12-16; Note: N.A.; Artikkelnr Noca: N.A.; Part number IPS: N.A.; ComponentLink1URL: N.A.; ComponentLink1Description: Datasheet; ComponentLink2URL: N.A.; ComponentLink2Description: Supplier link; HelpURL: N.A.; Supplier 1: N.A.; Supplier Part Number 1: N.A.; Supplier 2: N.A.; Supplier Part Number 2: N.A.; Author: kod1; Component Class: Mechanicals; PartId: 101200008; Part number Norautron: N.A.
footprint MountingHole_3.2_M3

## MountingHole_3.2_M3_1
designator H?, comment MountingHole_NPTH  (no BOM)
Mounting hole, 3.2mm, M3, no annular; Part Number: MountingHole_3.2_M3; Manufacturer: N.A.; Part number NEMS: 101200008; Value: MountingHole_3.2_M3; Pad Count: 0; Component Status: Active; Rule: UNIONINDEX=0|RULEKIND=Clearance|NETSCOPE=DifferentNets|LAYERKIND=SameLayer|NAME=Schematic Clearance Constraint|GAP=10mil|GENERICCLEARANCE=10mil|IGNOREPADTOPADCLEARANCEINFOOTPRINT=TRUE|OBJECTCLEARANCES=ClearanceObj_Arc-ClearanceObj_Hole:0;ClearanceObj_Track-ClearanceObj_Hole:0;ClearanceObj_SMDPad-ClearanceObj_Hole:0;ClearanceObj_THPad-ClearanceObj_Hole:0;ClearanceObj_Via-ClearanceObj_Hole:0;ClearanceObj_Fill-ClearanceObj_Hole:0;ClearanceObj_Poly-ClearanceObj_Hole:0;ClearanceObj_Region-ClearanceObj_Hole:0;ClearanceObj_Text-ClearanceObj_Hole:0|UNIT=Metric; Rule: UNIONINDEX=0|RULEKIND=RoutingVias|NETSCOPE=AnyNet|LAYERKIND=SameLayer|NAME=Schematic Routing Via Style|HOLEWIDTH=0mil|WIDTH=0mil|VIASTYLE=Through Hole|MINHOLEWIDTH=0mil|MINWIDTH=0mil|MAXHOLEWIDTH=78.7402mil|MAXWIDTH=78.7402mil|UNIT=Metric; Manufacturer Part Number: N.A.; Footprint Doc: MountingHole_3.2_M3; LatestRevisionDate: 2022-12-16; Published: 2022-12-16; Note: N.A.; Artikkelnr Noca: N.A.; Part number IPS: N.A.; ComponentLink1URL: N.A.; ComponentLink1Description: Datasheet; ComponentLink2URL: N.A.; ComponentLink2Description: Supplier link; HelpURL: N.A.; Supplier 1: N.A.; Supplier Part Number 1: N.A.; Supplier 2: N.A.; Supplier Part Number 2: N.A.; Author: kod1; Component Class: Mechanicals; PartId: 101200008; Part number Norautron: N.A.
footprint MountingHole_3.2_M3

## MP2307_DC_DC
designator PWR?
footprint MP2307_DC_DC
pins: 1 IN_N, 2 IN_P, 3 OUT_P, 4 OUT_N

## MP2307DN-LF-Z
designator IC?
Integrated Circuit; Manufacturer_Name: Monolithic Power Systems (MPS); Manufacturer_Part_Number: MP2307DN-LF-Z; Datasheet Link: http://www.mouser.com/ds/2/277/MP2307_r1.9-371737.pdf; Height: 1.7mm; Mouser Part Number: 946-MP2307DNLFZ; Mouser Price/Stock: https://www.mouser.co.uk/ProductDetail/Monolithic-Power-Systems-MPS/MP2307DN-LF-Z?qs=rC7bBWoQAAmsFilkwcof5g%3D%3D
footprint SOIC127P600X170-9N
pins: 1 BS, 2 IN, 3 SW, 4 GND, 5 FB, 6 COMP, 7 EN, 8 SS, 9 EP

## MPU6050
designator IC?
Integrated Circuit; Manufacturer_Name: TDK; Manufacturer_Part_Number: MPU6050; Datasheet Link: https://invensense.tdk.com/wp-content/uploads/2015/02/MPU-6000-Datasheet1.pdf; Height: 0.95mm
footprint MPU6050
pins: 1 CLKIN, 2 NC_1, 3 NC_2, 4 NC_3, 5 NC_4, 6 AUX_DA, 7 AUX_CL, 8 VLOGIC, 9 AD0, 10 REGOUT, 11 FSYNC, 12 INT, 13 VDD, 14 NC_5, 15 NC_6, 16 NC_7, 17 NC_8, 18 GND, 19 RESV_1, 20 CPOUT, 21 RESV_2, 22 RESV_3, 23 SCL, 24 SDA, 25 EP

## MPX2100AP
designator J?
MF: {'manufacturer': u'JST Sales America Inc.'}; MP: B4B-XH-A; Package: None; Price: None; Value: *; Availability: Unavailable
footprint MPX2100AP
pins: 1 GND, 2 +VOUT, 3 VS, 4 -VOUT

## MPX5700AP
designator U?  (value not drawn)
footprint Freescale_Semiconductor_SOT1756-1_MFG
pins: 1 VOUT (power), 2 GROUND (power), 3 VCC (power), 4 V1 (power), 5 V2 (power), 6 VEX (power)

## MTG2MM
designator MTG?, comment Mounting Hole, 2MM  (no BOM)
footprint MTG-PTH-2MM
pins: 0

## MTG2MM_1
designator MTG?, comment Mounting Hole, 2MM  (no BOM)
footprint MTG-PTH-2MM
pins: 0

## MTG3MM
designator MTG?, comment Mounting Hole, 3 MM  (no BOM)
footprint MTG-PTH-1_8MM
pins: 0

## NHD-C12832A1Z-FSW-FBW-3V3
designator DS?, comment SCREEN
Chip on Glass- Graphic;128x32 Pixels;41.4x24.3x4;FSTN (+);Transflect;4-Bit / SPI | Newhaven Display International NHD-C12832A1Z-FSW-FBW-3V3; SnapEDA_Link: https://www.snapeda.com/parts/NHD-C12832A1Z-FSW-FBW-3V3/Newhaven+Display/view-part/?ref=snap; Package: None; Value: *; MF: Newhaven; MP: NHD-C12832A1Z-FSW-FBW-3V3; Check_prices: https://www.snapeda.com/parts/NHD-C12832A1Z-FSW-FBW-3V3/Newhaven+Display/view-part/?ref=eda
footprint LCD_NHD-C12832A1Z-FSW-FBW-3V3
pins: 1 V0 (power), 2 V1 (power), 3 V2 (power), 4 V3 (power), 5 V4 (power), 6 C2-, 7 C2+, 8 C1+, 9 C1-, 10 VOUT (out), 11 VSS (power), 12 VDD (power), 13 SI (io), 14 SCL (in), 15 A0 (in), 16 ~{RST} (in), 17 ~{CS1} (in), A LED+, K LED-

## NLAS5223BMNR2G
designator U?
Dual-SPDT Analog Switch; Manufacturer: ON Semiconductor; Part number NEMS: 101900819; Note: N.A.; Pad Count: 10; Component Status: Active; Part Number: NLAS5223BMNR2G; Manufacturer Part Number: NLAS5223BMNR2G; ComponentLink1URL: https://www.onsemi.com/pdf/datasheet/nlas5223b-d.pdf; ComponentLink1Description: Datasheet; ComponentLink2URL: https://www.digikey.com/en/products/detail/onsemi/NLAS5223BLMNR2G/1484453; ComponentLink2Description: Supplier link; HelpURL: https://www.onsemi.com/products/interfaces/analog-switches/nlas5223b; Footprint Doc: UFQFN-10; LatestRevisionDate: 2024-05-08; Published: 2024-05-08; Value: NLAS5223BMNR2G; Supplier 1: Digi-Key; Supplier Part Number 1: NLAS5223BMNR2GOSCT-ND; Supplier 2: N.A.; Supplier Part Number 2: N.A.; Artikkelnr Noca: N.A.; Part number IPS: N.A.; Author: getr; Component Class: Misc_ICs; Part number Norautron: N.A.; PartId: 101900819
footprint UFQFN40P140X180X55-10N
pins: 1 VCC (power), 2 NO1 (io), 3 COM1 (io), 4 IN1 (in), 5 NC1 (io), 6 GND (power), 7 NC2 (io), 8 IN2 (in), 9 COM2 (io), 10 NO2 (io)

## NLAS5223BMNR2G_1
designator U?, comment NLAS5223BMNR2G
Dual-SPDT Analog Switch; Manufacturer: ON Semiconductor; Part number NEMS: 101900819; Note: N.A.; Pad Count: 10; Component Status: Active; Part Number: NLAS5223BMNR2G; Manufacturer Part Number: NLAS5223BMNR2G; ComponentLink1URL: https://www.onsemi.com/pdf/datasheet/nlas5223b-d.pdf; ComponentLink1Description: Datasheet; ComponentLink2URL: https://www.digikey.com/en/products/detail/onsemi/NLAS5223BLMNR2G/1484453; ComponentLink2Description: Supplier link; HelpURL: https://www.onsemi.com/products/interfaces/analog-switches/nlas5223b; Footprint Doc: UFQFN-10; LatestRevisionDate: 2024-05-08; Published: 2024-05-08; Value: NLAS5223BMNR2G; Supplier 1: Digi-Key; Supplier Part Number 1: NLAS5223BMNR2GOSCT-ND; Supplier 2: N.A.; Supplier Part Number 2: N.A.; Artikkelnr Noca: N.A.; Part number IPS: N.A.; Author: getr; Component Class: Misc_ICs; Part number Norautron: N.A.; PartId: 101900819
footprint UFQFN40P140X180X55-10N
pins: 1 VCC (power), 2 NO1 (io), 3 COM1 (io), 4 IN1 (in), 5 NC1 (io), 6 GND (power), 7 NC2 (io), 8 IN2 (in), 9 COM2 (io), 10 NO2 (io)

## NN02-101_Corner
designator A?, comment NN02-101
Miniature and high-efficiency Bluetooth/Wi-Fi antenna; Part Number: NN02-101_Corner; Manufacturer: Ignion; Part number NEMS: 100700077; Component Status: Active; Pad Count: 2; Note: N.A.; PartId: 100700079; Component Class: Antennas; Author: hany; Manufacturer Part Number: NN02-101; ComponentLink1URL: https://ignion.io/files/DS_NN02-101.pdf; ComponentLink1Description: Datasheet; ComponentLink2URL: https://www.digikey.com/en/products/detail/ignion/NN02-101/14544286; ComponentLink2Description: Supplier link; HelpURL: https://ignion.io/product/nano-mxtend/; LatestRevisionDate: 2022-12-21; Published: 2022-12-21; Footprint Doc: NN02-101; Value: NN02-101; Supplier 1: Digi-Key; Supplier Part Number 1: 2115-NN02-101-ND; Supplier 2: N.A.; Supplier Part Number 2: N.A.; Artikkelnr Noca: N.A.; Part number IPS: N.A.; Part number Norautron: N.A.
footprint NN02-101_Corner
pins: 1

## NN02-101_Corner_1
designator A?, comment NN02-101
Miniature and high-efficiency Bluetooth/Wi-Fi antenna; Part Number: NN02-101_Corner; Manufacturer: Ignion; Part number NEMS: 100700077; Component Status: Active; Pad Count: 2; Note: N.A.; PartId: 100700079; Component Class: Antennas; Author: hany; Manufacturer Part Number: NN02-101; ComponentLink1URL: https://ignion.io/files/DS_NN02-101.pdf; ComponentLink1Description: Datasheet; ComponentLink2URL: https://www.digikey.com/en/products/detail/ignion/NN02-101/14544286; ComponentLink2Description: Supplier link; HelpURL: https://ignion.io/product/nano-mxtend/; LatestRevisionDate: 2022-12-21; Published: 2022-12-21; Footprint Doc: NN02-101; Value: NN02-101; Supplier 1: Digi-Key; Supplier Part Number 1: 2115-NN02-101-ND; Supplier 2: N.A.; Supplier Part Number 2: N.A.; Artikkelnr Noca: N.A.; Part number IPS: N.A.; Part number Norautron: N.A.
footprint NN02-101_Corner
pins: 1

## NN03-310-R
designator A?, comment NN03-310
Mobile IoT LTE Multi-Band Antenna; Part Number: NN03-310-R; Manufacturer: Ignion; Part number IPS: 80000001819; Part number NEMS: 100700053; Pad Count: 5; Note: N.A.; Component Status: Active; PartId: 100700053; Component Class: Antennas; Author: rsk; Manufacturer Part Number: NN03-310; ComponentLink1URL: https://ignion.io/files/DS_NN03-310.pdf; ComponentLink1Description: Datasheet; ComponentLink2URL: https://ignion.io/product/trio-mxtend/; ComponentLink2Description: Supplier link; HelpURL: https://ignion.io/files/UM_NN03-310.pdf; Footprint Doc: NN03-310; LatestRevisionDate: 2021-12-15; Published: 2018-07-09; Value: NN03-310; Supplier 1: N.A.; Supplier Part Number 1: N.A.; Supplier 2: N.A.; Supplier Part Number 2: N.A.; Artikkelnr Noca: N.A.; Part number Norautron: N.A.
footprint NN03-310_RF
footprint NN03-310_RF_ALT1 (NN03-310_RF)
pins: 1 Feed, 2 Tuning, 3 Tuning, 4 Tuning

## NN03-310-R_1
designator A?, comment NN03-310
Mobile IoT LTE Multi-Band Antenna; Part Number: NN03-310-R; Manufacturer: Ignion; Part number IPS: 80000001819; Part number NEMS: 100700053; Pad Count: 5; Note: N.A.; Component Status: Active; PartId: 100700053; Component Class: Antennas; Author: rsk; Manufacturer Part Number: NN03-310; ComponentLink1URL: https://ignion.io/files/DS_NN03-310.pdf; ComponentLink1Description: Datasheet; ComponentLink2URL: https://ignion.io/product/trio-mxtend/; ComponentLink2Description: Supplier link; HelpURL: https://ignion.io/files/UM_NN03-310.pdf; Footprint Doc: NN03-310; LatestRevisionDate: 2021-12-15; Published: 2018-07-09; Value: NN03-310; Supplier 1: N.A.; Supplier Part Number 1: N.A.; Supplier 2: N.A.; Supplier Part Number 2: N.A.; Artikkelnr Noca: N.A.; Part number Norautron: N.A.
footprint NN03-310_RF
footprint NN03-310_RF_ALT1 (NN03-310_RF)
pins: 1 Feed, 2 Tuning, 3 Tuning, 4 Tuning

## NN03-320
designator A?
Dual-Band GNSS and Wi-Fi/BluetoothAntenna; Manufacturer: Ignion; Part number NEMS: 100700066; Pad Count: 4; Note: N.A.; Component Status: Active; Part Number: NN03-320; Component Class: Antennas; Author: rubr; Manufacturer Part Number: NN03-320; ComponentLink1URL: https://ignion.io/files/DS_NN03-320.pdf; ComponentLink1Description: Datasheet; ComponentLink2URL: https://ignion.io/product/duo-mxtend/; ComponentLink2Description: Supplier link; HelpURL: https://ignion.io/files/UM_NN03-320.pdf; Footprint Doc: NN03-320; LatestRevisionDate: 2021-12-10; Published: 2023-01-31; Value: NN03-320; Supplier 1: Digi-Key; Supplier Part Number 1: 2115-NN03-320CT-ND; Supplier 2: Mouser; Supplier Part Number 2: 128-NN03-320; Artikkelnr Noca: N.A.; Part number IPS: N.A.; Part number Norautron: N.A.; PartId: 100700066
footprint NN03-320
pins: 1 NC hidden, 2 GND hidden, 3 Feed2 hidden, 4 Feed1
3 alternate drawings of the same symbol

## NN03-320_1
designator A?, comment NN03-320
Dual-Band GNSS and Wi-Fi/BluetoothAntenna; Manufacturer: Ignion; Part number NEMS: 100700066; Pad Count: 4; Note: N.A.; Component Status: Active; Part Number: NN03-320; Component Class: Antennas; Author: rubr; Manufacturer Part Number: NN03-320; ComponentLink1URL: https://ignion.io/files/DS_NN03-320.pdf; ComponentLink1Description: Datasheet; ComponentLink2URL: https://ignion.io/product/duo-mxtend/; ComponentLink2Description: Supplier link; HelpURL: https://ignion.io/files/UM_NN03-320.pdf; Footprint Doc: NN03-320; LatestRevisionDate: 2021-12-10; Published: 2023-01-31; Value: NN03-320; Supplier 1: Digi-Key; Supplier Part Number 1: 2115-NN03-320CT-ND; Supplier 2: Mouser; Supplier Part Number 2: 128-NN03-320; Artikkelnr Noca: N.A.; Part number IPS: N.A.; Part number Norautron: N.A.; PartId: 100700066
footprint NN03-320
pins: 1 NC hidden, 2 GND hidden, 3 Feed2 hidden, 4 Feed1
3 alternate drawings of the same symbol

## Nordic Logo lying
designator LOGO?, comment Nordic Logo  (value not drawn)  (no BOM)
Nordic logo lying; Manufacturer: N.A.; Part number NEMS: 101100001; Component Status: Active; Pad Count: 0; Part Number: Nordic Logo lying; PartId: 101100001; Component Class: Markings; Author: rsk; Manufacturer Part Number: N.A.; ComponentLink1URL: N.A.; ComponentLink1Description: Datasheet; ComponentLink2URL: N.A.; ComponentLink2Description: Supplier link; HelpURL: N.A.; LatestRevisionDate: 2017-03-20; Published: 2017-09-01; Footprint Doc: Nordic Logo; Value: Nordic Logo; Note: N.A.; Supplier 1: N.A.; Supplier Part Number 1: N.A.; Supplier 2: N.A.; Supplier Part Number 2: N.A.; Artikkelnr Noca: N.A.; Part number IPS: N.A.; Part number Norautron: N.A.
footprint NORDIC_LOGO_LYING

## Nordic Logo lying_1
designator LOGO?, comment Nordic Logo  (value not drawn)  (no BOM)
Nordic logo lying; Manufacturer: N.A.; Part number NEMS: 101100001; Component Status: Active; Pad Count: 0; Part Number: Nordic Logo lying; PartId: 101100001; Component Class: Markings; Author: rsk; Manufacturer Part Number: N.A.; ComponentLink1URL: N.A.; ComponentLink1Description: Datasheet; ComponentLink2URL: N.A.; ComponentLink2Description: Supplier link; HelpURL: N.A.; LatestRevisionDate: 2017-03-20; Published: 2017-09-01; Footprint Doc: Nordic Logo; Value: Nordic Logo; Note: N.A.; Supplier 1: N.A.; Supplier Part Number 1: N.A.; Supplier 2: N.A.; Supplier Part Number 2: N.A.; Artikkelnr Noca: N.A.; Part number IPS: N.A.; Part number Norautron: N.A.
footprint NORDIC_LOGO_LYING

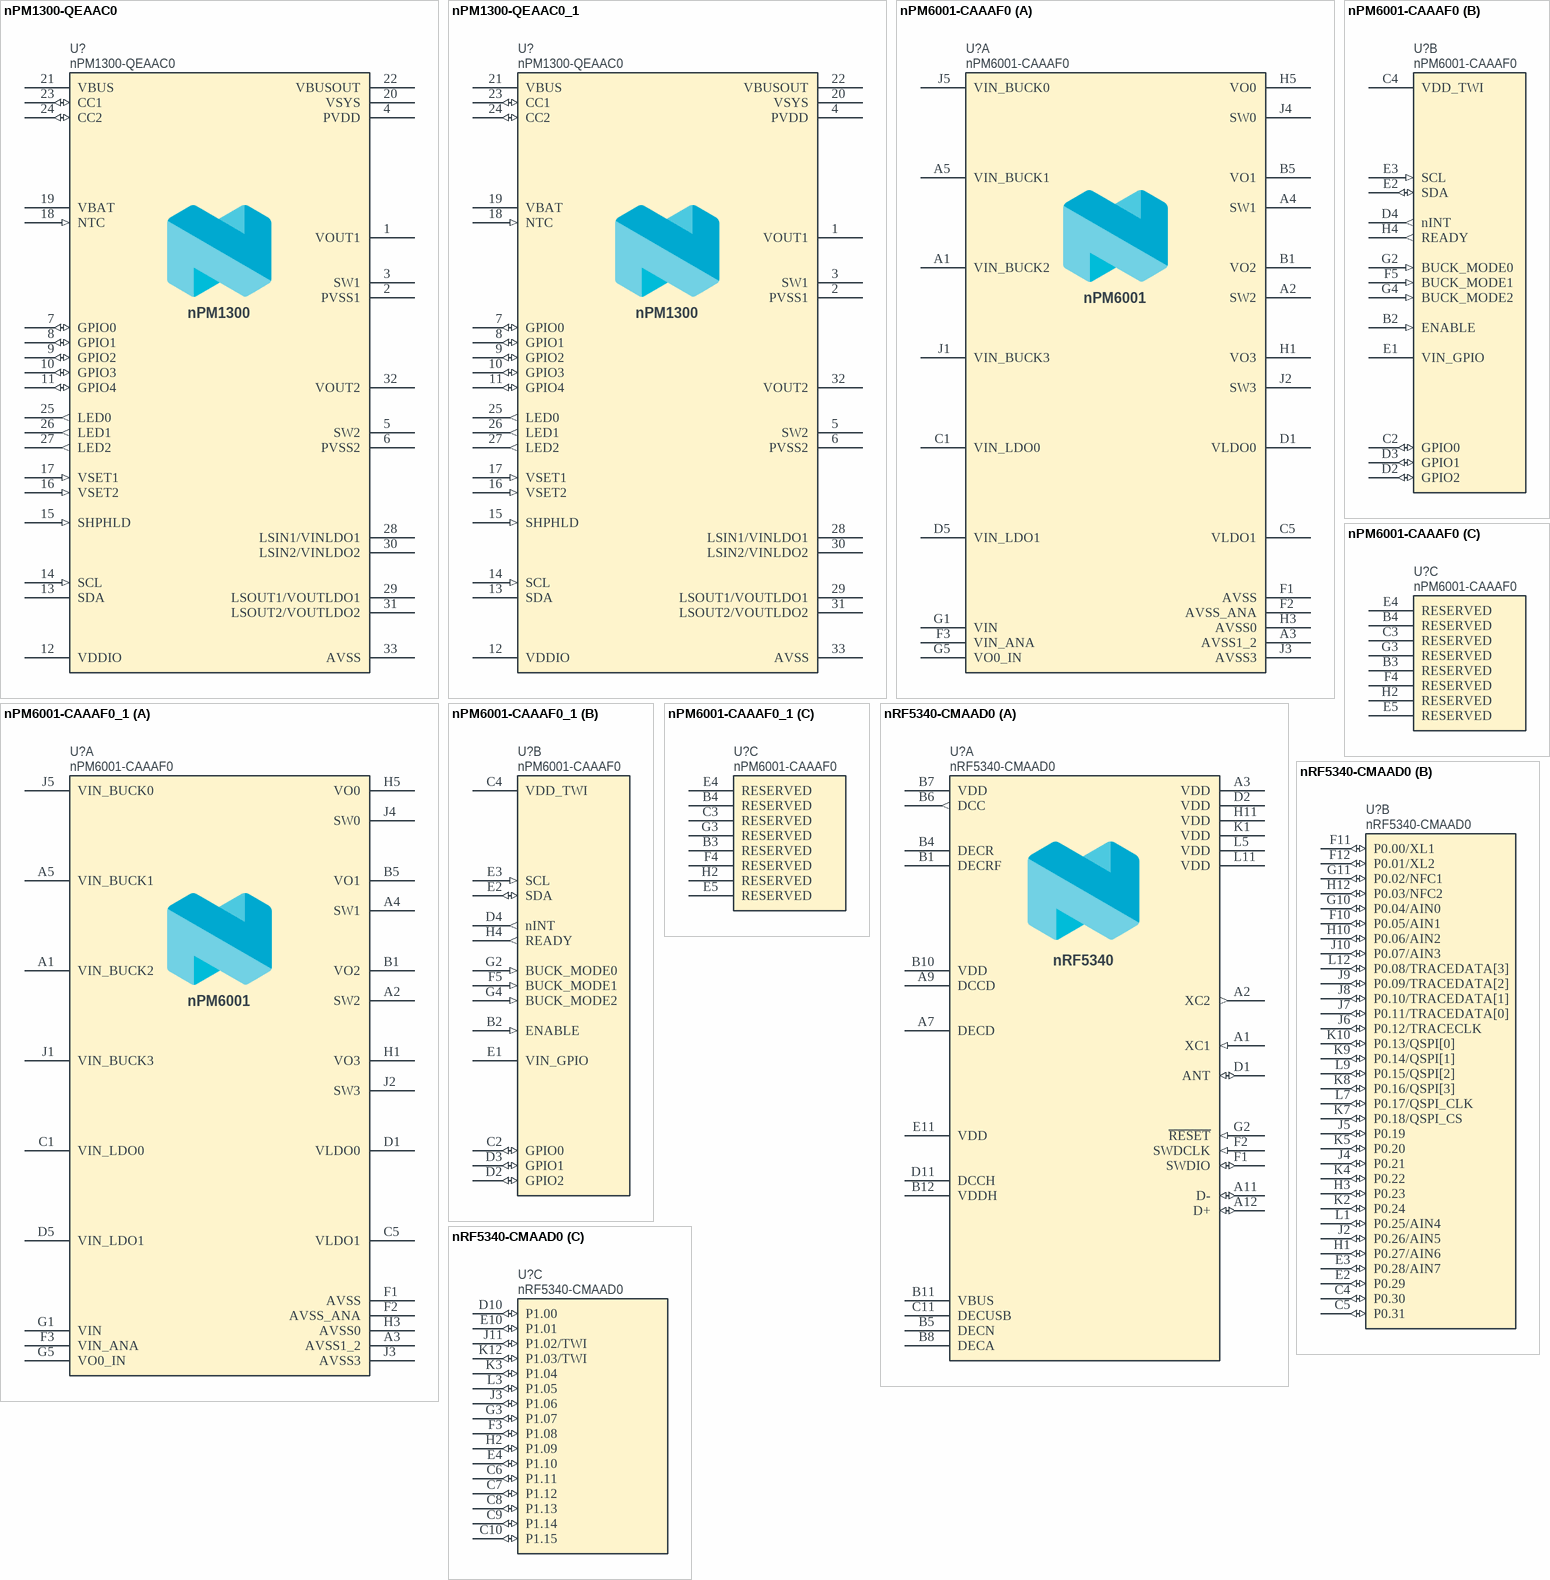
[diagram p9: symbols nPM1300-QEAAC0 to nRF5340-CMAAD0]